# Altium schematic symbol library 9-Diodes.SchLib: 8 symbols
Pins are listed as number, name and electrical type; pins without a type are passive.

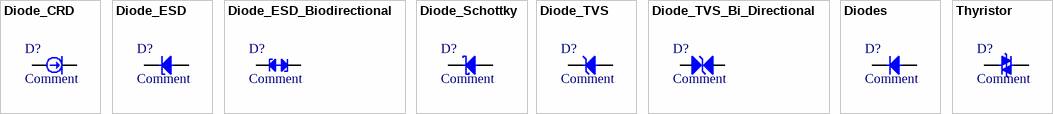
[diagram p0: symbols Diode_CRD to Thyristor]

## Diode_CRD
designator D?, comment Comment
pins: 1, 2

## Diode_ESD
designator D?, comment Comment
pins: 1, 2

## Diode_ESD_Biodirectional
designator D?, comment Comment
pins: 1, 2

## Diode_Schottky
designator D?, comment Comment
pins: 1 A, 2 K

## Diode_TVS
designator D?, comment Comment
pins: 1, 2

## Diode_TVS_Bi_Directional
designator D?, comment Comment
pins: 1, 2

## Diodes
designator D?, comment Comment
pins: 1, 2

## Thyristor
designator D?, comment Comment
pins: 1, 2